# Altium integrated library F1206B3R00FWTR.IntLib: 1 symbol
Pins are listed as number, name and electrical type; pins without a type are passive.

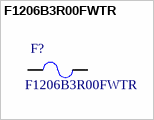
[diagram p0: symbol F1206B3R00FWTR]

## F1206B3R00FWTR
designator F?
F1206B Series Fast Acting 63 V 3 A 1206 Surface Mount Thin-Film Fuse T&R; MF: AVX; Package: 1206 AVX; Availability: Good; MP: F1206B3R00FWTR; Price: 0.44 USD; SnapEDA_Link: https://www.snapeda.com/parts/F1206B3R00FWTR/AVX%20/%20Kyocera/view-part/?ref=snap; Value: *
footprint FUSM3216X140N
pins: 1, 2